# Altium integrated library ISSI SRAM Asynchronous SRAM High Speed Low Power.IntLib: 413 symbols (part 15 of 21)
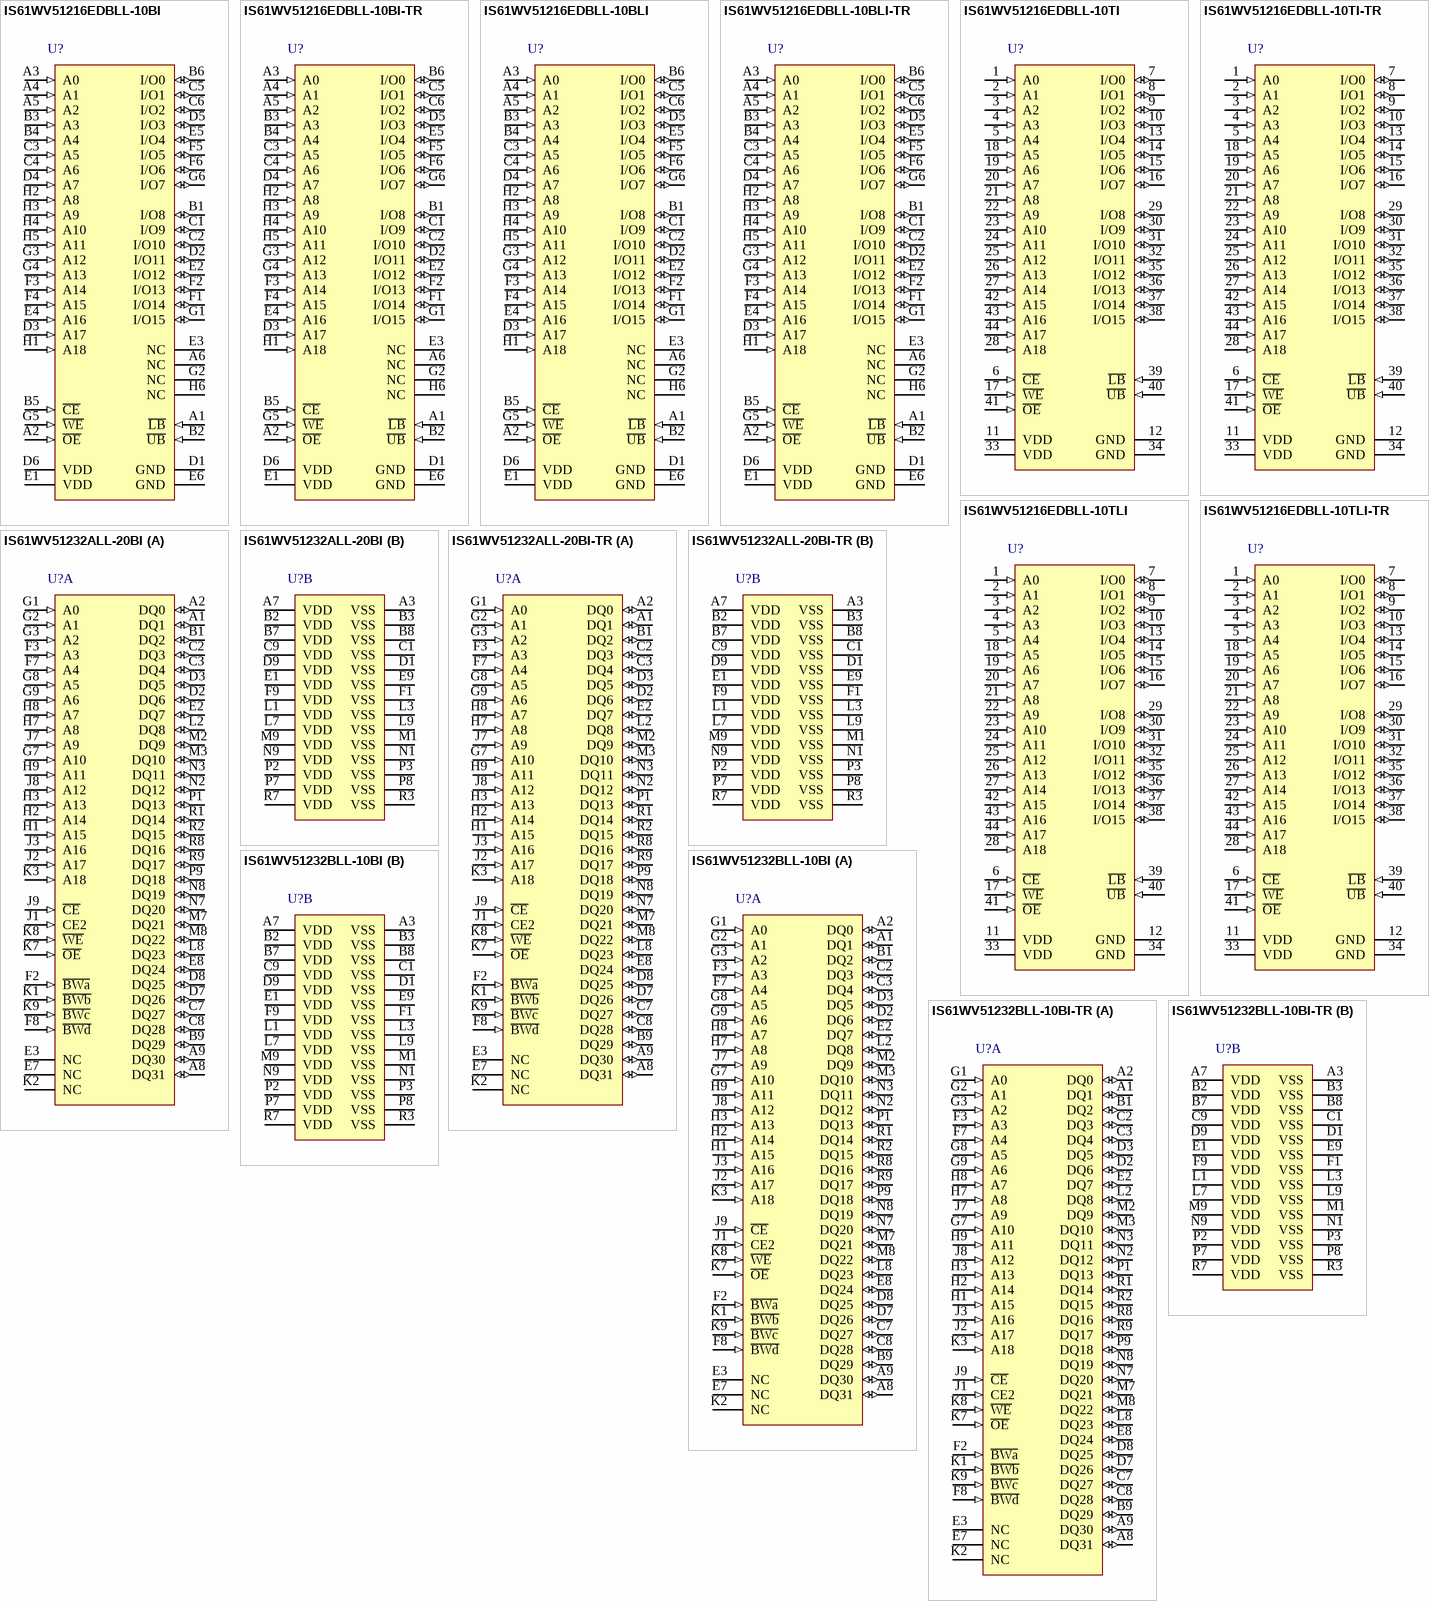
[diagram p42: symbols IS61WV51216EDBLL-10BI to IS61WV51232BLL-10BI-TR]

## IS61WV51216EDBLL-10BI
designator U?
8 M High Speed Asynchronous CMOS SRAM with ECC, 512 K x 16, -40 to 85 degC, 48-Pin BGA (TF-BGA-48); Manufacturer: Integrated Silicon Solution Inc (ISSI); PartNumber: IS61WV51216EDBLL-10BI; Density: 8M; Packing: Tray / Tube; Speed (ns): 10; DatasheetVersion: Rev. C; PackageVersion: Rev. C, 08/2008; PackageReference: TF-BGA-48; PackageDescription: 48-Pin 6 x 8 mm TF-BGA, Pitch 0.75 mm; Organization: 512K x 16; Mounting Technology: Surface Mount; Code_JEDEC: MO-207; ComponentLink1Description: Manufacturer URL; ComponentLink1URL: http://www.issi.com/US/index.shtml; ComponentLink2Description: Datasheet; ComponentLink2URL: http://www.issi.com/WW/pdf/61-64WV51216EDBLL.pdf; ComponentLink3Description: Package Specification; ComponentLink3URL: http://www.issi.com/WW/pdf/61-64WV25616.pdf
footprint ISSI-TF-BGA-48-6000X8000DE (BGA, 48-Balls, Body 8x6mm, Pitch 0.75mm)
pins: A1 ~{LB} (in) "Lower-byte Control (I/O0-I/O7)", A2 ~{OE} (in) "Output Enable Input", A3 A0 (in) "Address Input", A4 A1 (in) "Address Input", A5 A2 (in) "Address Input", A6 NC "No Connection", B1 I/O8 (io) "Data Input/Output", B2 ~{UB} (in) "Upper-byte Control (I/O8-I/O15)", B3 A3 (in) "Address Input", B4 A4 (in) "Address Input", B5 ~{CE} (in) "Chip Enable Input", B6 I/O0 (io) "Data Input/Output", C1 I/O9 (io) "Data Input/Output", C2 I/O10 (io) "Data Input/Output", C3 A5 (in) "Address Input", C4 A6 (in) "Address Input", C5 I/O1 (io) "Data Input/Output", C6 I/O2 (io) "Data Input/Output", D1 GND (power) "Ground", D2 I/O11 (io) "Data Input/Output", D3 A17 (in) "Address Input", D4 A7 (in) "Address Input", D5 I/O3 (io) "Data Input/Output", D6 VDD (power) "Power", E1 VDD (power) "Power", E2 I/O12 (io) "Data Input/Output", E3 NC "No Connection", E4 A16 (in) "Address Input", E5 I/O4 (io) "Data Input/Output", E6 GND (power) "Ground", F1 I/O14 (io) "Data Input/Output", F2 I/O13 (io) "Data Input/Output", F3 A14 (in) "Address Input", F4 A15 (in) "Address Input", F5 I/O5 (io) "Data Input/Output", F6 I/O6 (io) "Data Input/Output", G1 I/O15 (io) "Data Input/Output", G2 NC "No Connection", G3 A12 (in) "Address Input", G4 A13 (in) "Address Input", G5 ~{WE} (in) "Write Enable Input", G6 I/O7 (io) "Data Input/Output", H1 A18 (in) "Address Input", H2 A8 (in) "Address Input", H3 A9 (in) "Address Input", H4 A10 (in) "Address Input", H5 A11 (in) "Address Input", H6 NC "No Connection"

## IS61WV51216EDBLL-10BI-TR
designator U?
8 M High Speed Asynchronous CMOS SRAM with ECC, 512 K x 16, -40 to 85 degC, 48-Pin BGA (TF-BGA-48); Manufacturer: Integrated Silicon Solution Inc (ISSI); PartNumber: IS61WV51216EDBLL-10BI-TR; Density: 8M; Packing: Tape & Reel; Speed (ns): 10; DatasheetVersion: Rev. C; PackageVersion: Rev. C, 08/2008; PackageReference: TF-BGA-48; PackageDescription: 48-Pin 6 x 8 mm TF-BGA, Pitch 0.75 mm; Organization: 512K x 16; Mounting Technology: Surface Mount; Code_JEDEC: MO-207; ComponentLink1Description: Manufacturer URL; ComponentLink1URL: http://www.issi.com/US/index.shtml; ComponentLink2Description: Datasheet; ComponentLink2URL: http://www.issi.com/WW/pdf/61-64WV51216EDBLL.pdf; ComponentLink3Description: Package Specification; ComponentLink3URL: http://www.issi.com/WW/pdf/61-64WV25616.pdf
footprint ISSI-TF-BGA-48-6000X8000DE (BGA, 48-Balls, Body 8x6mm, Pitch 0.75mm)
pins: A1 ~{LB} (in) "Lower-byte Control (I/O0-I/O7)", A2 ~{OE} (in) "Output Enable Input", A3 A0 (in) "Address Input", A4 A1 (in) "Address Input", A5 A2 (in) "Address Input", A6 NC "No Connection", B1 I/O8 (io) "Data Input/Output", B2 ~{UB} (in) "Upper-byte Control (I/O8-I/O15)", B3 A3 (in) "Address Input", B4 A4 (in) "Address Input", B5 ~{CE} (in) "Chip Enable Input", B6 I/O0 (io) "Data Input/Output", C1 I/O9 (io) "Data Input/Output", C2 I/O10 (io) "Data Input/Output", C3 A5 (in) "Address Input", C4 A6 (in) "Address Input", C5 I/O1 (io) "Data Input/Output", C6 I/O2 (io) "Data Input/Output", D1 GND (power) "Ground", D2 I/O11 (io) "Data Input/Output", D3 A17 (in) "Address Input", D4 A7 (in) "Address Input", D5 I/O3 (io) "Data Input/Output", D6 VDD (power) "Power", E1 VDD (power) "Power", E2 I/O12 (io) "Data Input/Output", E3 NC "No Connection", E4 A16 (in) "Address Input", E5 I/O4 (io) "Data Input/Output", E6 GND (power) "Ground", F1 I/O14 (io) "Data Input/Output", F2 I/O13 (io) "Data Input/Output", F3 A14 (in) "Address Input", F4 A15 (in) "Address Input", F5 I/O5 (io) "Data Input/Output", F6 I/O6 (io) "Data Input/Output", G1 I/O15 (io) "Data Input/Output", G2 NC "No Connection", G3 A12 (in) "Address Input", G4 A13 (in) "Address Input", G5 ~{WE} (in) "Write Enable Input", G6 I/O7 (io) "Data Input/Output", H1 A18 (in) "Address Input", H2 A8 (in) "Address Input", H3 A9 (in) "Address Input", H4 A10 (in) "Address Input", H5 A11 (in) "Address Input", H6 NC "No Connection"

## IS61WV51216EDBLL-10BLI
designator U?
8 M High Speed Asynchronous CMOS SRAM with ECC, 512 K x 16, -40 to 85 degC, 48-Pin BGA (TF-BGA-48), Pb-Free; Manufacturer: Integrated Silicon Solution Inc (ISSI); PartNumber: IS61WV51216EDBLL-10BLI; Density: 8M; Packing: Tray / Tube; Speed (ns): 10; DatasheetVersion: Rev. C; PackageVersion: Rev. C, 08/2008; PackageReference: TF-BGA-48; PackageDescription: 48-Pin 6 x 8 mm TF-BGA, Pitch 0.75 mm; Supplier 1: Mouser; Supplier Part Number 1: 870-61WV512DBLL10BLI; Organization: 512K x 16; RoHS: Pb-Free; Mounting Technology: Surface Mount; Code_JEDEC: MO-207; ComponentLink1Description: Manufacturer URL; ComponentLink1URL: http://www.issi.com/US/index.shtml; ComponentLink2Description: Datasheet; ComponentLink2URL: http://www.issi.com/WW/pdf/61-64WV51216EDBLL.pdf; ComponentLink3Description: Package Specification; ComponentLink3URL: http://www.issi.com/WW/pdf/61-64WV25616.pdf
footprint ISSI-TF-BGA-48-6000X8000DE (BGA, 48-Balls, Body 8x6mm, Pitch 0.75mm)
pins: A1 ~{LB} (in) "Lower-byte Control (I/O0-I/O7)", A2 ~{OE} (in) "Output Enable Input", A3 A0 (in) "Address Input", A4 A1 (in) "Address Input", A5 A2 (in) "Address Input", A6 NC "No Connection", B1 I/O8 (io) "Data Input/Output", B2 ~{UB} (in) "Upper-byte Control (I/O8-I/O15)", B3 A3 (in) "Address Input", B4 A4 (in) "Address Input", B5 ~{CE} (in) "Chip Enable Input", B6 I/O0 (io) "Data Input/Output", C1 I/O9 (io) "Data Input/Output", C2 I/O10 (io) "Data Input/Output", C3 A5 (in) "Address Input", C4 A6 (in) "Address Input", C5 I/O1 (io) "Data Input/Output", C6 I/O2 (io) "Data Input/Output", D1 GND (power) "Ground", D2 I/O11 (io) "Data Input/Output", D3 A17 (in) "Address Input", D4 A7 (in) "Address Input", D5 I/O3 (io) "Data Input/Output", D6 VDD (power) "Power", E1 VDD (power) "Power", E2 I/O12 (io) "Data Input/Output", E3 NC "No Connection", E4 A16 (in) "Address Input", E5 I/O4 (io) "Data Input/Output", E6 GND (power) "Ground", F1 I/O14 (io) "Data Input/Output", F2 I/O13 (io) "Data Input/Output", F3 A14 (in) "Address Input", F4 A15 (in) "Address Input", F5 I/O5 (io) "Data Input/Output", F6 I/O6 (io) "Data Input/Output", G1 I/O15 (io) "Data Input/Output", G2 NC "No Connection", G3 A12 (in) "Address Input", G4 A13 (in) "Address Input", G5 ~{WE} (in) "Write Enable Input", G6 I/O7 (io) "Data Input/Output", H1 A18 (in) "Address Input", H2 A8 (in) "Address Input", H3 A9 (in) "Address Input", H4 A10 (in) "Address Input", H5 A11 (in) "Address Input", H6 NC "No Connection"

## IS61WV51216EDBLL-10BLI-TR
designator U?
8 M High Speed Asynchronous CMOS SRAM with ECC, 512 K x 16, -40 to 85 degC, 48-Pin BGA (TF-BGA-48), Pb-Free; Manufacturer: Integrated Silicon Solution Inc (ISSI); PartNumber: IS61WV51216EDBLL-10BLI-TR; Density: 8M; Packing: Tape & Reel; Speed (ns): 10; DatasheetVersion: Rev. C; PackageVersion: Rev. C, 08/2008; PackageReference: TF-BGA-48; PackageDescription: 48-Pin 6 x 8 mm TF-BGA, Pitch 0.75 mm; Supplier 1: Mouser; Supplier Part Number 1: 870-61WV512BLL10BLIT; Organization: 512K x 16; RoHS: Pb-Free; Mounting Technology: Surface Mount; Code_JEDEC: MO-207; ComponentLink1Description: Manufacturer URL; ComponentLink1URL: http://www.issi.com/US/index.shtml; ComponentLink2Description: Datasheet; ComponentLink2URL: http://www.issi.com/WW/pdf/61-64WV51216EDBLL.pdf; ComponentLink3Description: Package Specification; ComponentLink3URL: http://www.issi.com/WW/pdf/61-64WV25616.pdf
footprint ISSI-TF-BGA-48-6000X8000DE (BGA, 48-Balls, Body 8x6mm, Pitch 0.75mm)
pins: A1 ~{LB} (in) "Lower-byte Control (I/O0-I/O7)", A2 ~{OE} (in) "Output Enable Input", A3 A0 (in) "Address Input", A4 A1 (in) "Address Input", A5 A2 (in) "Address Input", A6 NC "No Connection", B1 I/O8 (io) "Data Input/Output", B2 ~{UB} (in) "Upper-byte Control (I/O8-I/O15)", B3 A3 (in) "Address Input", B4 A4 (in) "Address Input", B5 ~{CE} (in) "Chip Enable Input", B6 I/O0 (io) "Data Input/Output", C1 I/O9 (io) "Data Input/Output", C2 I/O10 (io) "Data Input/Output", C3 A5 (in) "Address Input", C4 A6 (in) "Address Input", C5 I/O1 (io) "Data Input/Output", C6 I/O2 (io) "Data Input/Output", D1 GND (power) "Ground", D2 I/O11 (io) "Data Input/Output", D3 A17 (in) "Address Input", D4 A7 (in) "Address Input", D5 I/O3 (io) "Data Input/Output", D6 VDD (power) "Power", E1 VDD (power) "Power", E2 I/O12 (io) "Data Input/Output", E3 NC "No Connection", E4 A16 (in) "Address Input", E5 I/O4 (io) "Data Input/Output", E6 GND (power) "Ground", F1 I/O14 (io) "Data Input/Output", F2 I/O13 (io) "Data Input/Output", F3 A14 (in) "Address Input", F4 A15 (in) "Address Input", F5 I/O5 (io) "Data Input/Output", F6 I/O6 (io) "Data Input/Output", G1 I/O15 (io) "Data Input/Output", G2 NC "No Connection", G3 A12 (in) "Address Input", G4 A13 (in) "Address Input", G5 ~{WE} (in) "Write Enable Input", G6 I/O7 (io) "Data Input/Output", H1 A18 (in) "Address Input", H2 A8 (in) "Address Input", H3 A9 (in) "Address Input", H4 A10 (in) "Address Input", H5 A11 (in) "Address Input", H6 NC "No Connection"

## IS61WV51216EDBLL-10TI
designator U?
8 M High Speed Asynchronous CMOS SRAM with ECC, 512 K x 16, -40 to 85 degC, 44-Pin SOP (TSOP-2-44); Manufacturer: Integrated Silicon Solution Inc (ISSI); PartNumber: IS61WV51216EDBLL-10TI; Density: 8M; Packing: Tray / Tube; Speed (ns): 10; DatasheetVersion: Rev. C; PackageVersion: Rev. F, 06/2008; PackageReference: TSOP-2-44; PackageDescription: 44-Pin 400 mil TSOP-2, Body 18.41 x 10.16 mm, Pitch 0.8 mm; Organization: 512K x 16; Mounting Technology: Surface Mount; ComponentLink1Description: Manufacturer URL; ComponentLink1URL: http://www.issi.com/US/index.shtml; ComponentLink2Description: Datasheet; ComponentLink2URL: http://www.issi.com/WW/pdf/61-64WV51216EDBLL.pdf; ComponentLink3Description: Package Specification; ComponentLink3URL: http://www.issi.com/WW/pdf/61-64WV6416EEBLL.pdf
footprint ISSI-TSOP-2-44_N (SOP, 44-Leads, Body 18.5x10.3mm, Pitch 0.8mm, IPC Medium Density)
pins: 1 A0 (in) "Address Input", 2 A1 (in) "Address Input", 3 A2 (in) "Address Input", 4 A3 (in) "Address Input", 5 A4 (in) "Address Input", 6 ~{CE} (in) "Chip Enable Input", 7 I/O0 (io) "Data Input/Output", 8 I/O1 (io) "Data Input/Output", 9 I/O2 (io) "Data Input/Output", 10 I/O3 (io) "Data Input/Output", 11 VDD (power) "Power", 12 GND (power) "Ground", 13 I/O4 (io) "Data Input/Output", 14 I/O5 (io) "Data Input/Output", 15 I/O6 (io) "Data Input/Output", 16 I/O7 (io) "Data Input/Output", 17 ~{WE} (in) "Write Enable Input", 18 A5 (in) "Address Input", 19 A6 (in) "Address Input", 20 A7 (in) "Address Input", 21 A8 (in) "Address Input", 22 A9 (in) "Address Input", 23 A10 (in) "Address Input", 24 A11 (in) "Address Input", 25 A12 (in) "Address Input", 26 A13 (in) "Address Input", 27 A14 (in) "Address Input", 28 A18 (in) "Address Input", 29 I/O8 (io) "Data Input/Output", 30 I/O9 (io) "Data Input/Output", 31 I/O10 (io) "Data Input/Output", 32 I/O11 (io) "Data Input/Output", 33 VDD (power) "Power", 34 GND (power) "Ground", 35 I/O12 (io) "Data Input/Output", 36 I/O13 (io) "Data Input/Output", 37 I/O14 (io) "Data Input/Output", 38 I/O15 (io) "Data Input/Output", 39 ~{LB} (in) "Lower-byte Control (I/O0-I/O7)", 40 ~{UB} (in) "Upper-byte Control (I/O8-I/O15)", 41 ~{OE} (in) "Output Enable Input", 42 A15 (in) "Address Input", 43 A16 (in) "Address Input", 44 A17 (in) "Address Input"

## IS61WV51216EDBLL-10TI-TR
designator U?
8 M High Speed Asynchronous CMOS SRAM with ECC, 512 K x 16, -40 to 85 degC, 44-Pin SOP (TSOP-2-44); Manufacturer: Integrated Silicon Solution Inc (ISSI); PartNumber: IS61WV51216EDBLL-10TI-TR; Density: 8M; Packing: Tape & Reel; Speed (ns): 10; DatasheetVersion: Rev. C; PackageVersion: Rev. F, 06/2008; PackageReference: TSOP-2-44; PackageDescription: 44-Pin 400 mil TSOP-2, Body 18.41 x 10.16 mm, Pitch 0.8 mm; Organization: 512K x 16; Mounting Technology: Surface Mount; ComponentLink1Description: Manufacturer URL; ComponentLink1URL: http://www.issi.com/US/index.shtml; ComponentLink2Description: Datasheet; ComponentLink2URL: http://www.issi.com/WW/pdf/61-64WV51216EDBLL.pdf; ComponentLink3Description: Package Specification; ComponentLink3URL: http://www.issi.com/WW/pdf/61-64WV6416EEBLL.pdf
footprint ISSI-TSOP-2-44_N (SOP, 44-Leads, Body 18.5x10.3mm, Pitch 0.8mm, IPC Medium Density)
pins: 1 A0 (in) "Address Input", 2 A1 (in) "Address Input", 3 A2 (in) "Address Input", 4 A3 (in) "Address Input", 5 A4 (in) "Address Input", 6 ~{CE} (in) "Chip Enable Input", 7 I/O0 (io) "Data Input/Output", 8 I/O1 (io) "Data Input/Output", 9 I/O2 (io) "Data Input/Output", 10 I/O3 (io) "Data Input/Output", 11 VDD (power) "Power", 12 GND (power) "Ground", 13 I/O4 (io) "Data Input/Output", 14 I/O5 (io) "Data Input/Output", 15 I/O6 (io) "Data Input/Output", 16 I/O7 (io) "Data Input/Output", 17 ~{WE} (in) "Write Enable Input", 18 A5 (in) "Address Input", 19 A6 (in) "Address Input", 20 A7 (in) "Address Input", 21 A8 (in) "Address Input", 22 A9 (in) "Address Input", 23 A10 (in) "Address Input", 24 A11 (in) "Address Input", 25 A12 (in) "Address Input", 26 A13 (in) "Address Input", 27 A14 (in) "Address Input", 28 A18 (in) "Address Input", 29 I/O8 (io) "Data Input/Output", 30 I/O9 (io) "Data Input/Output", 31 I/O10 (io) "Data Input/Output", 32 I/O11 (io) "Data Input/Output", 33 VDD (power) "Power", 34 GND (power) "Ground", 35 I/O12 (io) "Data Input/Output", 36 I/O13 (io) "Data Input/Output", 37 I/O14 (io) "Data Input/Output", 38 I/O15 (io) "Data Input/Output", 39 ~{LB} (in) "Lower-byte Control (I/O0-I/O7)", 40 ~{UB} (in) "Upper-byte Control (I/O8-I/O15)", 41 ~{OE} (in) "Output Enable Input", 42 A15 (in) "Address Input", 43 A16 (in) "Address Input", 44 A17 (in) "Address Input"

## IS61WV51216EDBLL-10TLI
designator U?
8 M High Speed Asynchronous CMOS SRAM with ECC, 512 K x 16, -40 to 85 degC, 44-Pin SOP (TSOP-2-44), Pb-Free; Manufacturer: Integrated Silicon Solution Inc (ISSI); PartNumber: IS61WV51216EDBLL-10TLI; Density: 8M; Packing: Tray / Tube; Speed (ns): 10; DatasheetVersion: Rev. C; PackageVersion: Rev. F, 06/2008; PackageReference: TSOP-2-44; PackageDescription: 44-Pin 400 mil TSOP-2, Body 18.41 x 10.16 mm, Pitch 0.8 mm; Supplier 1: Mouser; Supplier Part Number 1: 870-61WV512DBLL10TLI; Organization: 512K x 16; RoHS: Pb-Free; Mounting Technology: Surface Mount; ComponentLink1Description: Manufacturer URL; ComponentLink1URL: http://www.issi.com/US/index.shtml; ComponentLink2Description: Datasheet; ComponentLink2URL: http://www.issi.com/WW/pdf/61-64WV51216EDBLL.pdf; ComponentLink3Description: Package Specification; ComponentLink3URL: http://www.issi.com/WW/pdf/61-64WV6416EEBLL.pdf
footprint ISSI-TSOP-2-44_N (SOP, 44-Leads, Body 18.5x10.3mm, Pitch 0.8mm, IPC Medium Density)
pins: 1 A0 (in) "Address Input", 2 A1 (in) "Address Input", 3 A2 (in) "Address Input", 4 A3 (in) "Address Input", 5 A4 (in) "Address Input", 6 ~{CE} (in) "Chip Enable Input", 7 I/O0 (io) "Data Input/Output", 8 I/O1 (io) "Data Input/Output", 9 I/O2 (io) "Data Input/Output", 10 I/O3 (io) "Data Input/Output", 11 VDD (power) "Power", 12 GND (power) "Ground", 13 I/O4 (io) "Data Input/Output", 14 I/O5 (io) "Data Input/Output", 15 I/O6 (io) "Data Input/Output", 16 I/O7 (io) "Data Input/Output", 17 ~{WE} (in) "Write Enable Input", 18 A5 (in) "Address Input", 19 A6 (in) "Address Input", 20 A7 (in) "Address Input", 21 A8 (in) "Address Input", 22 A9 (in) "Address Input", 23 A10 (in) "Address Input", 24 A11 (in) "Address Input", 25 A12 (in) "Address Input", 26 A13 (in) "Address Input", 27 A14 (in) "Address Input", 28 A18 (in) "Address Input", 29 I/O8 (io) "Data Input/Output", 30 I/O9 (io) "Data Input/Output", 31 I/O10 (io) "Data Input/Output", 32 I/O11 (io) "Data Input/Output", 33 VDD (power) "Power", 34 GND (power) "Ground", 35 I/O12 (io) "Data Input/Output", 36 I/O13 (io) "Data Input/Output", 37 I/O14 (io) "Data Input/Output", 38 I/O15 (io) "Data Input/Output", 39 ~{LB} (in) "Lower-byte Control (I/O0-I/O7)", 40 ~{UB} (in) "Upper-byte Control (I/O8-I/O15)", 41 ~{OE} (in) "Output Enable Input", 42 A15 (in) "Address Input", 43 A16 (in) "Address Input", 44 A17 (in) "Address Input"

## IS61WV51216EDBLL-10TLI-TR
designator U?
8 M High Speed Asynchronous CMOS SRAM with ECC, 512 K x 16, -40 to 85 degC, 44-Pin SOP (TSOP-2-44), Pb-Free; Manufacturer: Integrated Silicon Solution Inc (ISSI); PartNumber: IS61WV51216EDBLL-10TLI-TR; Density: 8M; Packing: Tape & Reel; Speed (ns): 10; DatasheetVersion: Rev. C; PackageVersion: Rev. F, 06/2008; PackageReference: TSOP-2-44; PackageDescription: 44-Pin 400 mil TSOP-2, Body 18.41 x 10.16 mm, Pitch 0.8 mm; Supplier 1: Mouser; Supplier Part Number 1: 870-61WV512BLL10TLIT; Organization: 512K x 16; RoHS: Pb-Free; Mounting Technology: Surface Mount; ComponentLink1Description: Manufacturer URL; ComponentLink1URL: http://www.issi.com/US/index.shtml; ComponentLink2Description: Datasheet; ComponentLink2URL: http://www.issi.com/WW/pdf/61-64WV51216EDBLL.pdf; ComponentLink3Description: Package Specification; ComponentLink3URL: http://www.issi.com/WW/pdf/61-64WV6416EEBLL.pdf
footprint ISSI-TSOP-2-44_N (SOP, 44-Leads, Body 18.5x10.3mm, Pitch 0.8mm, IPC Medium Density)
pins: 1 A0 (in) "Address Input", 2 A1 (in) "Address Input", 3 A2 (in) "Address Input", 4 A3 (in) "Address Input", 5 A4 (in) "Address Input", 6 ~{CE} (in) "Chip Enable Input", 7 I/O0 (io) "Data Input/Output", 8 I/O1 (io) "Data Input/Output", 9 I/O2 (io) "Data Input/Output", 10 I/O3 (io) "Data Input/Output", 11 VDD (power) "Power", 12 GND (power) "Ground", 13 I/O4 (io) "Data Input/Output", 14 I/O5 (io) "Data Input/Output", 15 I/O6 (io) "Data Input/Output", 16 I/O7 (io) "Data Input/Output", 17 ~{WE} (in) "Write Enable Input", 18 A5 (in) "Address Input", 19 A6 (in) "Address Input", 20 A7 (in) "Address Input", 21 A8 (in) "Address Input", 22 A9 (in) "Address Input", 23 A10 (in) "Address Input", 24 A11 (in) "Address Input", 25 A12 (in) "Address Input", 26 A13 (in) "Address Input", 27 A14 (in) "Address Input", 28 A18 (in) "Address Input", 29 I/O8 (io) "Data Input/Output", 30 I/O9 (io) "Data Input/Output", 31 I/O10 (io) "Data Input/Output", 32 I/O11 (io) "Data Input/Output", 33 VDD (power) "Power", 34 GND (power) "Ground", 35 I/O12 (io) "Data Input/Output", 36 I/O13 (io) "Data Input/Output", 37 I/O14 (io) "Data Input/Output", 38 I/O15 (io) "Data Input/Output", 39 ~{LB} (in) "Lower-byte Control (I/O0-I/O7)", 40 ~{UB} (in) "Upper-byte Control (I/O8-I/O15)", 41 ~{OE} (in) "Output Enable Input", 42 A15 (in) "Address Input", 43 A16 (in) "Address Input", 44 A17 (in) "Address Input"

## IS61WV51232ALL-20BI
designator U?
16 M High Speed Asynchronous CMOS SRAM with 3.3 V Supply, 512 K x 32, -40 to 85 degC, 90-Pin BGA (LF-BGA-90); Manufacturer: Integrated Silicon Solution Inc (ISSI); PartNumber: IS61WV51232ALL-20BI; Density: 16M; Packing: Tray / Tube; Speed (ns): 20; DatasheetVersion: Rev. B; PackageVersion: Rev. B, 08/2008; PackageReference: TF-BGA-90; PackageDescription: 90-Pin 8 x 13 mm TF-BGA, Pitch 0.8 mm; Organization: 512K x 32; Mounting Technology: Surface Mount; Code_JEDEC: MO-207; ComponentLink1Description: Manufacturer URL; ComponentLink1URL: http://www.issi.com/US/index.shtml; ComponentLink2Description: Datasheet; ComponentLink2URL: http://www.issi.com/WW/pdf/61-64WV51232Axx-Bxx.pdf; ComponentLink3Description: Package Specification; ComponentLink3URL: http://www.issi.com/WW/pdf/61-64WV25632.pdf
footprint ISSI-TF-BGA-90-8000X13000DE (BGA, 90-Balls, Body 13x8mm, Pitch 0.8mm)
part A pins: A1 DQ1 (io) "Data I/O", A2 DQ0 (io) "Data I/O", A8 DQ31 (io) "Data I/O", A9 DQ30 (io) "Data I/O", B1 DQ2 (io) "Data I/O", B9 DQ29 (io) "Data I/O", C2 DQ3 (io) "Data I/O", C3 DQ4 (io) "Data I/O", C7 DQ27 (io) "Data I/O", C8 DQ28 (io) "Data I/O", D2 DQ6 (io) "Data I/O", D3 DQ5 (io) "Data I/O", D7 DQ26 (io) "Data I/O", D8 DQ25 (io) "Data I/O", E2 DQ7 (io) "Data I/O", E3 NC "No Connection", E7 NC "No Connection", E8 DQ24 (io) "Data I/O", F2 ~{BWa} (in) "Byte Write Control", F3 A3 (in) "Address Inputs", F7 A4 (in) "Address Inputs", F8 ~{BWd} (in) "Byte Write Control", G1 A0 (in) "Address Inputs", G2 A1 (in) "Address Inputs", G3 A2 (in) "Address Inputs", G7 A10 (in) "Address Inputs", G8 A5 (in) "Address Inputs", G9 A6 (in) "Address Inputs", H1 A15 (in) "Address Inputs", H2 A14 (in) "Address Inputs", H3 A13 (in) "Address Inputs", H7 A8 (in) "Address Inputs", H8 A7 (in) "Address Inputs", H9 A11 (in) "Address Inputs", J1 CE2 (in) "Chip Enable Input", J2 A17 (in) "Address Inputs", J3 A16 (in) "Address Inputs", J7 A9 (in) "Address Inputs", J8 A12 (in) "Address Inputs", J9 ~{CE} (in) "Chip Enable Input", K1 ~{BWb} (in) "Byte Write Control", K2 NC "No Connection", K3 A18 (in) "Address Inputs", K7 ~{OE} (in) "Output Enable Input", K8 ~{WE} (in) "Write Enable Input", K9 ~{BWc} (in) "Byte Write Control", L2 DQ8 (io) "Data I/O", L8 DQ23 (io) "Data I/O", M2 DQ9 (io) "Data I/O", M3 DQ10 (io) "Data I/O", M7 DQ21 (io) "Data I/O", M8 DQ22 (io) "Data I/O", N2 DQ12 (io) "Data I/O", N3 DQ11 (io) "Data I/O", N7 DQ20 (io) "Data I/O", N8 DQ19 (io) "Data I/O", P1 DQ13 (io) "Data I/O", P9 DQ18 (io) "Data I/O", R1 DQ14 (io) "Data I/O", R2 DQ15 (io) "Data I/O", R8 DQ16 (io) "Data I/O", R9 DQ17 (io) "Data I/O"
part B pins: A3 VSS (power) "Ground", A7 VDD (power) "Power", B2 VDD (power) "Power", B3 VSS (power) "Ground", B7 VDD (power) "Power", B8 VSS (power) "Ground", C1 VSS (power) "Ground", C9 VDD (power) "Power", D1 VSS (power) "Ground", D9 VDD (power) "Power", E1 VDD (power) "Power", E9 VSS (power) "Ground", F1 VSS (power) "Ground", F9 VDD (power) "Power", L1 VDD (power) "Power", L3 VSS (power) "Ground", L7 VDD (power) "Power", L9 VSS (power) "Ground", M1 VSS (power) "Ground", M9 VDD (power) "Power", N1 VSS (power) "Ground", N9 VDD (power) "Power", P2 VDD (power) "Power", P3 VSS (power) "Ground", P7 VDD (power) "Power", P8 VSS (power) "Ground", R3 VSS (power) "Ground", R7 VDD (power) "Power"

## IS61WV51232ALL-20BI-TR
designator U?
16 M High Speed Asynchronous CMOS SRAM with 3.3 V Supply, 512 K x 32, -40 to 85 degC, 90-Pin BGA (LF-BGA-90); Manufacturer: Integrated Silicon Solution Inc (ISSI); PartNumber: IS61WV51232ALL-20BI-TR; Density: 16M; Packing: Tape & Reel; Speed (ns): 20; DatasheetVersion: Rev. B; PackageVersion: Rev. B, 08/2008; PackageReference: TF-BGA-90; PackageDescription: 90-Pin 8 x 13 mm TF-BGA, Pitch 0.8 mm; Organization: 512K x 32; Mounting Technology: Surface Mount; Code_JEDEC: MO-207; ComponentLink1Description: Manufacturer URL; ComponentLink1URL: http://www.issi.com/US/index.shtml; ComponentLink2Description: Datasheet; ComponentLink2URL: http://www.issi.com/WW/pdf/61-64WV51232Axx-Bxx.pdf; ComponentLink3Description: Package Specification; ComponentLink3URL: http://www.issi.com/WW/pdf/61-64WV25632.pdf
footprint ISSI-TF-BGA-90-8000X13000DE (BGA, 90-Balls, Body 13x8mm, Pitch 0.8mm)
part A pins: A1 DQ1 (io) "Data I/O", A2 DQ0 (io) "Data I/O", A8 DQ31 (io) "Data I/O", A9 DQ30 (io) "Data I/O", B1 DQ2 (io) "Data I/O", B9 DQ29 (io) "Data I/O", C2 DQ3 (io) "Data I/O", C3 DQ4 (io) "Data I/O", C7 DQ27 (io) "Data I/O", C8 DQ28 (io) "Data I/O", D2 DQ6 (io) "Data I/O", D3 DQ5 (io) "Data I/O", D7 DQ26 (io) "Data I/O", D8 DQ25 (io) "Data I/O", E2 DQ7 (io) "Data I/O", E3 NC "No Connection", E7 NC "No Connection", E8 DQ24 (io) "Data I/O", F2 ~{BWa} (in) "Byte Write Control", F3 A3 (in) "Address Inputs", F7 A4 (in) "Address Inputs", F8 ~{BWd} (in) "Byte Write Control", G1 A0 (in) "Address Inputs", G2 A1 (in) "Address Inputs", G3 A2 (in) "Address Inputs", G7 A10 (in) "Address Inputs", G8 A5 (in) "Address Inputs", G9 A6 (in) "Address Inputs", H1 A15 (in) "Address Inputs", H2 A14 (in) "Address Inputs", H3 A13 (in) "Address Inputs", H7 A8 (in) "Address Inputs", H8 A7 (in) "Address Inputs", H9 A11 (in) "Address Inputs", J1 CE2 (in) "Chip Enable Input", J2 A17 (in) "Address Inputs", J3 A16 (in) "Address Inputs", J7 A9 (in) "Address Inputs", J8 A12 (in) "Address Inputs", J9 ~{CE} (in) "Chip Enable Input", K1 ~{BWb} (in) "Byte Write Control", K2 NC "No Connection", K3 A18 (in) "Address Inputs", K7 ~{OE} (in) "Output Enable Input", K8 ~{WE} (in) "Write Enable Input", K9 ~{BWc} (in) "Byte Write Control", L2 DQ8 (io) "Data I/O", L8 DQ23 (io) "Data I/O", M2 DQ9 (io) "Data I/O", M3 DQ10 (io) "Data I/O", M7 DQ21 (io) "Data I/O", M8 DQ22 (io) "Data I/O", N2 DQ12 (io) "Data I/O", N3 DQ11 (io) "Data I/O", N7 DQ20 (io) "Data I/O", N8 DQ19 (io) "Data I/O", P1 DQ13 (io) "Data I/O", P9 DQ18 (io) "Data I/O", R1 DQ14 (io) "Data I/O", R2 DQ15 (io) "Data I/O", R8 DQ16 (io) "Data I/O", R9 DQ17 (io) "Data I/O"
part B pins: A3 VSS (power) "Ground", A7 VDD (power) "Power", B2 VDD (power) "Power", B3 VSS (power) "Ground", B7 VDD (power) "Power", B8 VSS (power) "Ground", C1 VSS (power) "Ground", C9 VDD (power) "Power", D1 VSS (power) "Ground", D9 VDD (power) "Power", E1 VDD (power) "Power", E9 VSS (power) "Ground", F1 VSS (power) "Ground", F9 VDD (power) "Power", L1 VDD (power) "Power", L3 VSS (power) "Ground", L7 VDD (power) "Power", L9 VSS (power) "Ground", M1 VSS (power) "Ground", M9 VDD (power) "Power", N1 VSS (power) "Ground", N9 VDD (power) "Power", P2 VDD (power) "Power", P3 VSS (power) "Ground", P7 VDD (power) "Power", P8 VSS (power) "Ground", R3 VSS (power) "Ground", R7 VDD (power) "Power"

## IS61WV51232BLL-10BI
designator U?
16 M High Speed Asynchronous CMOS SRAM with 3.3 V Supply, 512 K x 32, -40 to 85 degC, 90-Pin BGA (LF-BGA-90); Manufacturer: Integrated Silicon Solution Inc (ISSI); PartNumber: IS61WV51232BLL-10BI; Density: 16M; Packing: Tray / Tube; Speed (ns): 10; DatasheetVersion: Rev. B; PackageVersion: Rev. B, 08/2008; PackageReference: TF-BGA-90; PackageDescription: 90-Pin 8 x 13 mm TF-BGA, Pitch 0.8 mm; Organization: 512K x 32; Mounting Technology: Surface Mount; Code_JEDEC: MO-207; ComponentLink1Description: Manufacturer URL; ComponentLink1URL: http://www.issi.com/US/index.shtml; ComponentLink2Description: Datasheet; ComponentLink2URL: http://www.issi.com/WW/pdf/61-64WV51232Axx-Bxx.pdf; ComponentLink3Description: Package Specification; ComponentLink3URL: http://www.issi.com/WW/pdf/61-64WV25632.pdf
footprint ISSI-TF-BGA-90-8000X13000DE (BGA, 90-Balls, Body 13x8mm, Pitch 0.8mm)
part A pins: A1 DQ1 (io) "Data I/O", A2 DQ0 (io) "Data I/O", A8 DQ31 (io) "Data I/O", A9 DQ30 (io) "Data I/O", B1 DQ2 (io) "Data I/O", B9 DQ29 (io) "Data I/O", C2 DQ3 (io) "Data I/O", C3 DQ4 (io) "Data I/O", C7 DQ27 (io) "Data I/O", C8 DQ28 (io) "Data I/O", D2 DQ6 (io) "Data I/O", D3 DQ5 (io) "Data I/O", D7 DQ26 (io) "Data I/O", D8 DQ25 (io) "Data I/O", E2 DQ7 (io) "Data I/O", E3 NC "No Connection", E7 NC "No Connection", E8 DQ24 (io) "Data I/O", F2 ~{BWa} (in) "Byte Write Control", F3 A3 (in) "Address Inputs", F7 A4 (in) "Address Inputs", F8 ~{BWd} (in) "Byte Write Control", G1 A0 (in) "Address Inputs", G2 A1 (in) "Address Inputs", G3 A2 (in) "Address Inputs", G7 A10 (in) "Address Inputs", G8 A5 (in) "Address Inputs", G9 A6 (in) "Address Inputs", H1 A15 (in) "Address Inputs", H2 A14 (in) "Address Inputs", H3 A13 (in) "Address Inputs", H7 A8 (in) "Address Inputs", H8 A7 (in) "Address Inputs", H9 A11 (in) "Address Inputs", J1 CE2 (in) "Chip Enable Input", J2 A17 (in) "Address Inputs", J3 A16 (in) "Address Inputs", J7 A9 (in) "Address Inputs", J8 A12 (in) "Address Inputs", J9 ~{CE} (in) "Chip Enable Input", K1 ~{BWb} (in) "Byte Write Control", K2 NC "No Connection", K3 A18 (in) "Address Inputs", K7 ~{OE} (in) "Output Enable Input", K8 ~{WE} (in) "Write Enable Input", K9 ~{BWc} (in) "Byte Write Control", L2 DQ8 (io) "Data I/O", L8 DQ23 (io) "Data I/O", M2 DQ9 (io) "Data I/O", M3 DQ10 (io) "Data I/O", M7 DQ21 (io) "Data I/O", M8 DQ22 (io) "Data I/O", N2 DQ12 (io) "Data I/O", N3 DQ11 (io) "Data I/O", N7 DQ20 (io) "Data I/O", N8 DQ19 (io) "Data I/O", P1 DQ13 (io) "Data I/O", P9 DQ18 (io) "Data I/O", R1 DQ14 (io) "Data I/O", R2 DQ15 (io) "Data I/O", R8 DQ16 (io) "Data I/O", R9 DQ17 (io) "Data I/O"
part B pins: A3 VSS (power) "Ground", A7 VDD (power) "Power", B2 VDD (power) "Power", B3 VSS (power) "Ground", B7 VDD (power) "Power", B8 VSS (power) "Ground", C1 VSS (power) "Ground", C9 VDD (power) "Power", D1 VSS (power) "Ground", D9 VDD (power) "Power", E1 VDD (power) "Power", E9 VSS (power) "Ground", F1 VSS (power) "Ground", F9 VDD (power) "Power", L1 VDD (power) "Power", L3 VSS (power) "Ground", L7 VDD (power) "Power", L9 VSS (power) "Ground", M1 VSS (power) "Ground", M9 VDD (power) "Power", N1 VSS (power) "Ground", N9 VDD (power) "Power", P2 VDD (power) "Power", P3 VSS (power) "Ground", P7 VDD (power) "Power", P8 VSS (power) "Ground", R3 VSS (power) "Ground", R7 VDD (power) "Power"

## IS61WV51232BLL-10BI-TR
designator U?
16 M High Speed Asynchronous CMOS SRAM with 3.3 V Supply, 512 K x 32, -40 to 85 degC, 90-Pin BGA (LF-BGA-90); Manufacturer: Integrated Silicon Solution Inc (ISSI); PartNumber: IS61WV51232BLL-10BI-TR; Density: 16M; Packing: Tape & Reel; Speed (ns): 10; DatasheetVersion: Rev. B; PackageVersion: Rev. B, 08/2008; PackageReference: TF-BGA-90; PackageDescription: 90-Pin 8 x 13 mm TF-BGA, Pitch 0.8 mm; Organization: 512K x 32; Mounting Technology: Surface Mount; Code_JEDEC: MO-207; ComponentLink1Description: Manufacturer URL; ComponentLink1URL: http://www.issi.com/US/index.shtml; ComponentLink2Description: Datasheet; ComponentLink2URL: http://www.issi.com/WW/pdf/61-64WV51232Axx-Bxx.pdf; ComponentLink3Description: Package Specification; ComponentLink3URL: http://www.issi.com/WW/pdf/61-64WV25632.pdf
footprint ISSI-TF-BGA-90-8000X13000DE (BGA, 90-Balls, Body 13x8mm, Pitch 0.8mm)
part A pins: A1 DQ1 (io) "Data I/O", A2 DQ0 (io) "Data I/O", A8 DQ31 (io) "Data I/O", A9 DQ30 (io) "Data I/O", B1 DQ2 (io) "Data I/O", B9 DQ29 (io) "Data I/O", C2 DQ3 (io) "Data I/O", C3 DQ4 (io) "Data I/O", C7 DQ27 (io) "Data I/O", C8 DQ28 (io) "Data I/O", D2 DQ6 (io) "Data I/O", D3 DQ5 (io) "Data I/O", D7 DQ26 (io) "Data I/O", D8 DQ25 (io) "Data I/O", E2 DQ7 (io) "Data I/O", E3 NC "No Connection", E7 NC "No Connection", E8 DQ24 (io) "Data I/O", F2 ~{BWa} (in) "Byte Write Control", F3 A3 (in) "Address Inputs", F7 A4 (in) "Address Inputs", F8 ~{BWd} (in) "Byte Write Control", G1 A0 (in) "Address Inputs", G2 A1 (in) "Address Inputs", G3 A2 (in) "Address Inputs", G7 A10 (in) "Address Inputs", G8 A5 (in) "Address Inputs", G9 A6 (in) "Address Inputs", H1 A15 (in) "Address Inputs", H2 A14 (in) "Address Inputs", H3 A13 (in) "Address Inputs", H7 A8 (in) "Address Inputs", H8 A7 (in) "Address Inputs", H9 A11 (in) "Address Inputs", J1 CE2 (in) "Chip Enable Input", J2 A17 (in) "Address Inputs", J3 A16 (in) "Address Inputs", J7 A9 (in) "Address Inputs", J8 A12 (in) "Address Inputs", J9 ~{CE} (in) "Chip Enable Input", K1 ~{BWb} (in) "Byte Write Control", K2 NC "No Connection", K3 A18 (in) "Address Inputs", K7 ~{OE} (in) "Output Enable Input", K8 ~{WE} (in) "Write Enable Input", K9 ~{BWc} (in) "Byte Write Control", L2 DQ8 (io) "Data I/O", L8 DQ23 (io) "Data I/O", M2 DQ9 (io) "Data I/O", M3 DQ10 (io) "Data I/O", M7 DQ21 (io) "Data I/O", M8 DQ22 (io) "Data I/O", N2 DQ12 (io) "Data I/O", N3 DQ11 (io) "Data I/O", N7 DQ20 (io) "Data I/O", N8 DQ19 (io) "Data I/O", P1 DQ13 (io) "Data I/O", P9 DQ18 (io) "Data I/O", R1 DQ14 (io) "Data I/O", R2 DQ15 (io) "Data I/O", R8 DQ16 (io) "Data I/O", R9 DQ17 (io) "Data I/O"
part B pins: A3 VSS (power) "Ground", A7 VDD (power) "Power", B2 VDD (power) "Power", B3 VSS (power) "Ground", B7 VDD (power) "Power", B8 VSS (power) "Ground", C1 VSS (power) "Ground", C9 VDD (power) "Power", D1 VSS (power) "Ground", D9 VDD (power) "Power", E1 VDD (power) "Power", E9 VSS (power) "Ground", F1 VSS (power) "Ground", F9 VDD (power) "Power", L1 VDD (power) "Power", L3 VSS (power) "Ground", L7 VDD (power) "Power", L9 VSS (power) "Ground", M1 VSS (power) "Ground", M9 VDD (power) "Power", N1 VSS (power) "Ground", N9 VDD (power) "Power", P2 VDD (power) "Power", P3 VSS (power) "Ground", P7 VDD (power) "Power", P8 VSS (power) "Ground", R3 VSS (power) "Ground", R7 VDD (power) "Power"

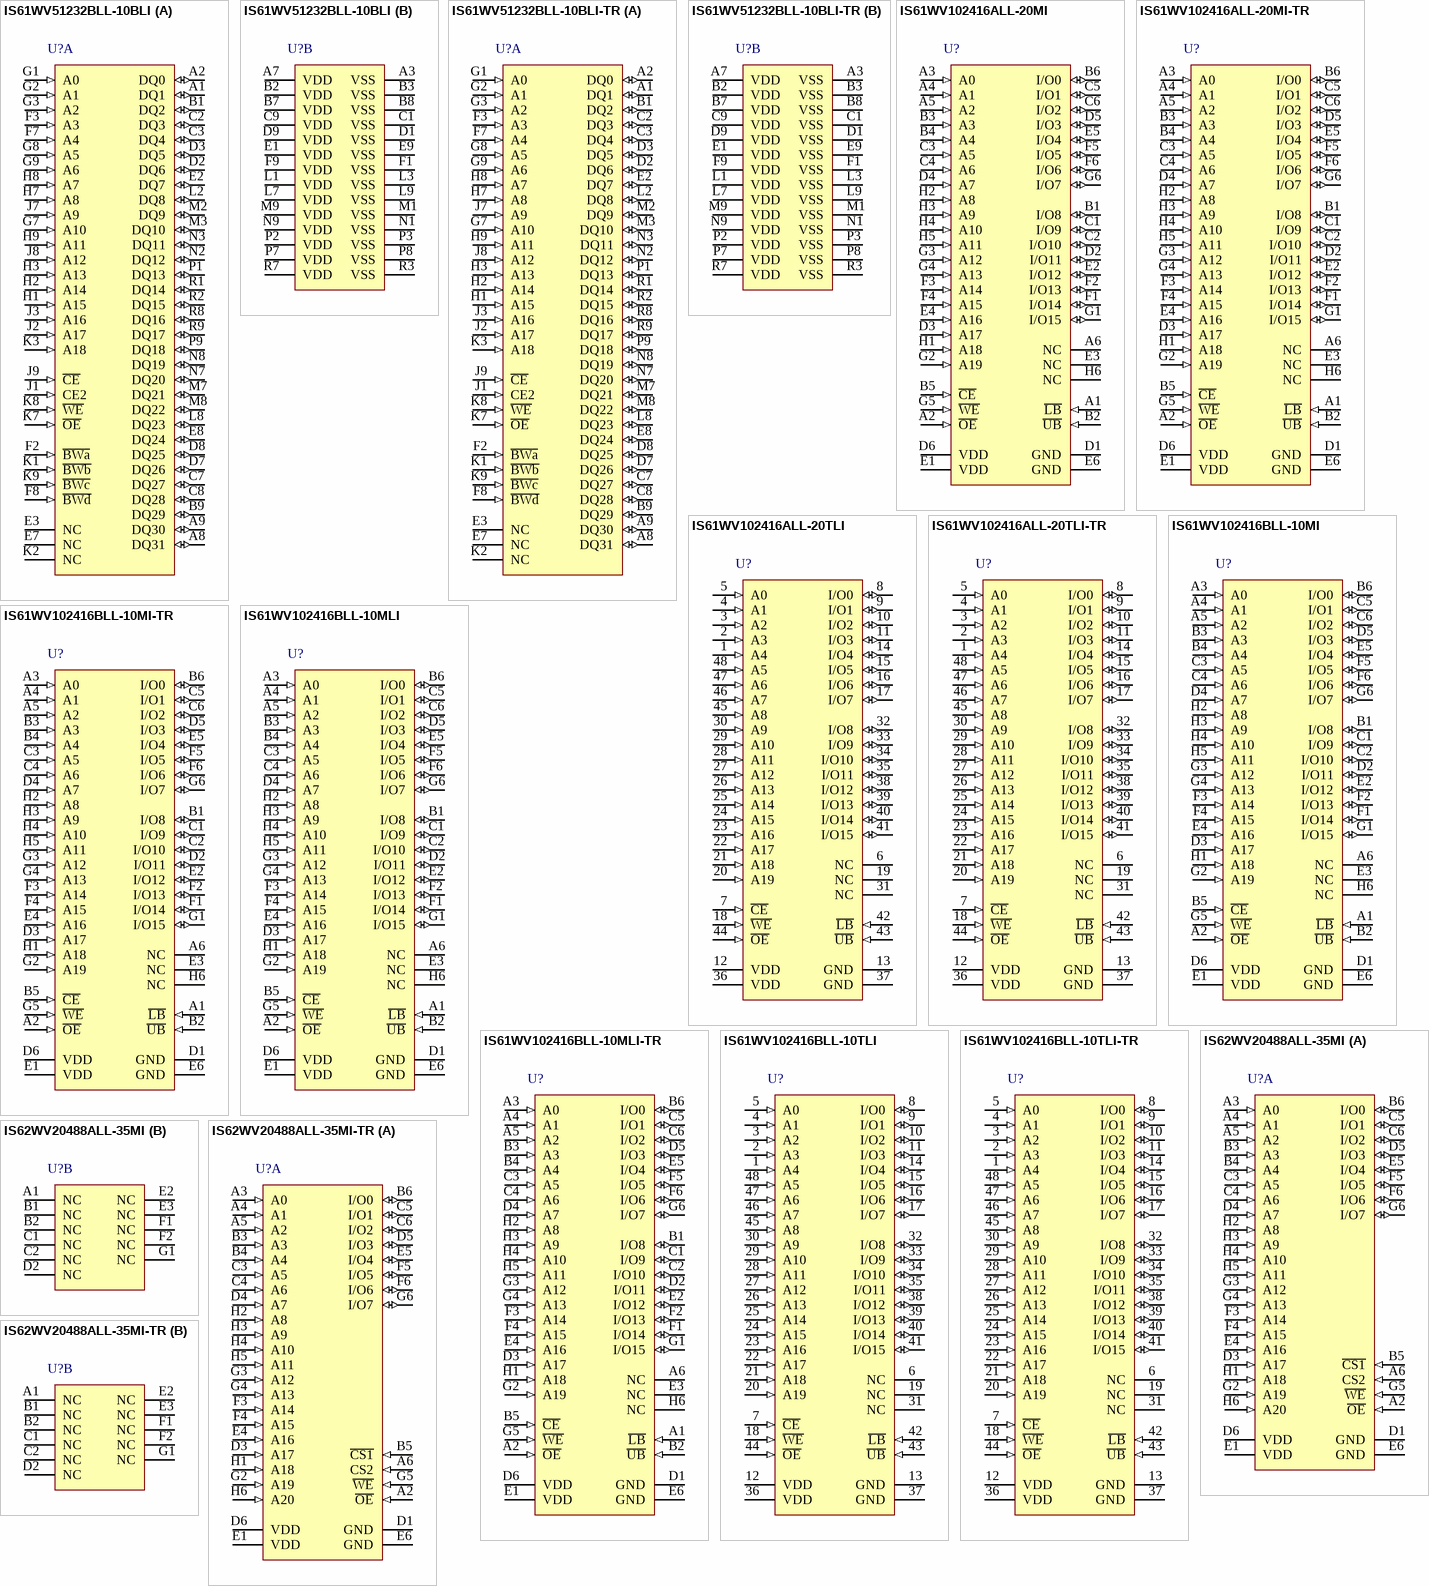
[diagram p21: symbols IS61WV51232BLL-10BLI to IS62WV20488ALL-35MI-TR]

## IS61WV51232BLL-10BLI
designator U?
16 M High Speed Asynchronous CMOS SRAM with 3.3 V Supply, 512 K x 32, -40 to 85 degC, 90-Pin BGA (LF-BGA-90), Pb-Free; Manufacturer: Integrated Silicon Solution Inc (ISSI); PartNumber: IS61WV51232BLL-10BLI; Density: 16M; Packing: Tray / Tube; Speed (ns): 10; DatasheetVersion: Rev. B; PackageVersion: Rev. B, 08/2008; PackageReference: TF-BGA-90; PackageDescription: 90-Pin 8 x 13 mm TF-BGA, Pitch 0.8 mm; Supplier 1: Digi-Key; Supplier Part Number 1: IS61WV51232BLL-10BLI-ND; Supplier 2: Newark; Supplier Part Number 2: 58M0541; Supplier 3: Mouser; Supplier Part Number 3: 870-61WV51232B10BLI; Organization: 512K x 32; RoHS: Pb-Free; Mounting Technology: Surface Mount; Code_JEDEC: MO-207; ComponentLink1Description: Manufacturer URL; ComponentLink1URL: http://www.issi.com/US/index.shtml; ComponentLink2Description: Datasheet; ComponentLink2URL: http://www.issi.com/WW/pdf/61-64WV51232Axx-Bxx.pdf; ComponentLink3Description: Package Specification; ComponentLink3URL: http://www.issi.com/WW/pdf/61-64WV25632.pdf
footprint ISSI-TF-BGA-90-8000X13000DE (BGA, 90-Balls, Body 13x8mm, Pitch 0.8mm)
part A pins: A1 DQ1 (io) "Data I/O", A2 DQ0 (io) "Data I/O", A8 DQ31 (io) "Data I/O", A9 DQ30 (io) "Data I/O", B1 DQ2 (io) "Data I/O", B9 DQ29 (io) "Data I/O", C2 DQ3 (io) "Data I/O", C3 DQ4 (io) "Data I/O", C7 DQ27 (io) "Data I/O", C8 DQ28 (io) "Data I/O", D2 DQ6 (io) "Data I/O", D3 DQ5 (io) "Data I/O", D7 DQ26 (io) "Data I/O", D8 DQ25 (io) "Data I/O", E2 DQ7 (io) "Data I/O", E3 NC "No Connection", E7 NC "No Connection", E8 DQ24 (io) "Data I/O", F2 ~{BWa} (in) "Byte Write Control", F3 A3 (in) "Address Inputs", F7 A4 (in) "Address Inputs", F8 ~{BWd} (in) "Byte Write Control", G1 A0 (in) "Address Inputs", G2 A1 (in) "Address Inputs", G3 A2 (in) "Address Inputs", G7 A10 (in) "Address Inputs", G8 A5 (in) "Address Inputs", G9 A6 (in) "Address Inputs", H1 A15 (in) "Address Inputs", H2 A14 (in) "Address Inputs", H3 A13 (in) "Address Inputs", H7 A8 (in) "Address Inputs", H8 A7 (in) "Address Inputs", H9 A11 (in) "Address Inputs", J1 CE2 (in) "Chip Enable Input", J2 A17 (in) "Address Inputs", J3 A16 (in) "Address Inputs", J7 A9 (in) "Address Inputs", J8 A12 (in) "Address Inputs", J9 ~{CE} (in) "Chip Enable Input", K1 ~{BWb} (in) "Byte Write Control", K2 NC "No Connection", K3 A18 (in) "Address Inputs", K7 ~{OE} (in) "Output Enable Input", K8 ~{WE} (in) "Write Enable Input", K9 ~{BWc} (in) "Byte Write Control", L2 DQ8 (io) "Data I/O", L8 DQ23 (io) "Data I/O", M2 DQ9 (io) "Data I/O", M3 DQ10 (io) "Data I/O", M7 DQ21 (io) "Data I/O", M8 DQ22 (io) "Data I/O", N2 DQ12 (io) "Data I/O", N3 DQ11 (io) "Data I/O", N7 DQ20 (io) "Data I/O", N8 DQ19 (io) "Data I/O", P1 DQ13 (io) "Data I/O", P9 DQ18 (io) "Data I/O", R1 DQ14 (io) "Data I/O", R2 DQ15 (io) "Data I/O", R8 DQ16 (io) "Data I/O", R9 DQ17 (io) "Data I/O"
part B pins: A3 VSS (power) "Ground", A7 VDD (power) "Power", B2 VDD (power) "Power", B3 VSS (power) "Ground", B7 VDD (power) "Power", B8 VSS (power) "Ground", C1 VSS (power) "Ground", C9 VDD (power) "Power", D1 VSS (power) "Ground", D9 VDD (power) "Power", E1 VDD (power) "Power", E9 VSS (power) "Ground", F1 VSS (power) "Ground", F9 VDD (power) "Power", L1 VDD (power) "Power", L3 VSS (power) "Ground", L7 VDD (power) "Power", L9 VSS (power) "Ground", M1 VSS (power) "Ground", M9 VDD (power) "Power", N1 VSS (power) "Ground", N9 VDD (power) "Power", P2 VDD (power) "Power", P3 VSS (power) "Ground", P7 VDD (power) "Power", P8 VSS (power) "Ground", R3 VSS (power) "Ground", R7 VDD (power) "Power"

## IS61WV51232BLL-10BLI-TR
designator U?
16 M High Speed Asynchronous CMOS SRAM with 3.3 V Supply, 512 K x 32, -40 to 85 degC, 90-Pin BGA (LF-BGA-90), Pb-Free; Manufacturer: Integrated Silicon Solution Inc (ISSI); PartNumber: IS61WV51232BLL-10BLI-TR; Density: 16M; Packing: Tape & Reel; Speed (ns): 10; DatasheetVersion: Rev. B; PackageVersion: Rev. B, 08/2008; PackageReference: LF-BGA-90; PackageDescription: 90-Pin 8 x 13 mm TF-BGA, Pitch 0.8 mm; Supplier 1: Digi-Key; Supplier Part Number 1: IS61WV51232BLL-10BLI-TR-ND; Supplier 2: Mouser; Supplier Part Number 2: 870-61WV51232B10BLIT; Organization: 512K x 32; RoHS: Pb-Free; Mounting Technology: Surface Mount; Code_JEDEC: MO-207; ComponentLink1Description: Manufacturer URL; ComponentLink1URL: http://www.issi.com/US/index.shtml; ComponentLink2Description: Datasheet; ComponentLink2URL: http://www.issi.com/WW/pdf/61-64WV51232Axx-Bxx.pdf; ComponentLink3Description: Package Specification; ComponentLink3URL: http://www.issi.com/WW/pdf/61-64WV51232Axx-Bxx.pdf
footprint ISSI-LF-BGA-90-8000X13000DE (BGA, 90-Balls, Body 13x8mm, Pitch 0.8mm)
part A pins: A1 DQ1 (io) "Data I/O", A2 DQ0 (io) "Data I/O", A8 DQ31 (io) "Data I/O", A9 DQ30 (io) "Data I/O", B1 DQ2 (io) "Data I/O", B9 DQ29 (io) "Data I/O", C2 DQ3 (io) "Data I/O", C3 DQ4 (io) "Data I/O", C7 DQ27 (io) "Data I/O", C8 DQ28 (io) "Data I/O", D2 DQ6 (io) "Data I/O", D3 DQ5 (io) "Data I/O", D7 DQ26 (io) "Data I/O", D8 DQ25 (io) "Data I/O", E2 DQ7 (io) "Data I/O", E3 NC "No Connection", E7 NC "No Connection", E8 DQ24 (io) "Data I/O", F2 ~{BWa} (in) "Byte Write Control", F3 A3 (in) "Address Inputs", F7 A4 (in) "Address Inputs", F8 ~{BWd} (in) "Byte Write Control", G1 A0 (in) "Address Inputs", G2 A1 (in) "Address Inputs", G3 A2 (in) "Address Inputs", G7 A10 (in) "Address Inputs", G8 A5 (in) "Address Inputs", G9 A6 (in) "Address Inputs", H1 A15 (in) "Address Inputs", H2 A14 (in) "Address Inputs", H3 A13 (in) "Address Inputs", H7 A8 (in) "Address Inputs", H8 A7 (in) "Address Inputs", H9 A11 (in) "Address Inputs", J1 CE2 (in) "Chip Enable Input", J2 A17 (in) "Address Inputs", J3 A16 (in) "Address Inputs", J7 A9 (in) "Address Inputs", J8 A12 (in) "Address Inputs", J9 ~{CE} (in) "Chip Enable Input", K1 ~{BWb} (in) "Byte Write Control", K2 NC "No Connection", K3 A18 (in) "Address Inputs", K7 ~{OE} (in) "Output Enable Input", K8 ~{WE} (in) "Write Enable Input", K9 ~{BWc} (in) "Byte Write Control", L2 DQ8 (io) "Data I/O", L8 DQ23 (io) "Data I/O", M2 DQ9 (io) "Data I/O", M3 DQ10 (io) "Data I/O", M7 DQ21 (io) "Data I/O", M8 DQ22 (io) "Data I/O", N2 DQ12 (io) "Data I/O", N3 DQ11 (io) "Data I/O", N7 DQ20 (io) "Data I/O", N8 DQ19 (io) "Data I/O", P1 DQ13 (io) "Data I/O", P9 DQ18 (io) "Data I/O", R1 DQ14 (io) "Data I/O", R2 DQ15 (io) "Data I/O", R8 DQ16 (io) "Data I/O", R9 DQ17 (io) "Data I/O"
part B pins: A3 VSS (power) "Ground", A7 VDD (power) "Power", B2 VDD (power) "Power", B3 VSS (power) "Ground", B7 VDD (power) "Power", B8 VSS (power) "Ground", C1 VSS (power) "Ground", C9 VDD (power) "Power", D1 VSS (power) "Ground", D9 VDD (power) "Power", E1 VDD (power) "Power", E9 VSS (power) "Ground", F1 VSS (power) "Ground", F9 VDD (power) "Power", L1 VDD (power) "Power", L3 VSS (power) "Ground", L7 VDD (power) "Power", L9 VSS (power) "Ground", M1 VSS (power) "Ground", M9 VDD (power) "Power", N1 VSS (power) "Ground", N9 VDD (power) "Power", P2 VDD (power) "Power", P3 VSS (power) "Ground", P7 VDD (power) "Power", P8 VSS (power) "Ground", R3 VSS (power) "Ground", R7 VDD (power) "Power"

## IS61WV102416ALL-20MI
designator U?
16 M High Speed Asynchronous CMOS SRAM with 3.3 V Supply, 1 M x 16, -40 to 85 degC, 48-Pin BGA (TF-BGA-48); Manufacturer: Integrated Silicon Solution Inc (ISSI); PartNumber: IS61WV102416ALL-20MI; Density: 16M; Organization: 1M x 16; Packing: Tray / Tube; Speed (ns): 20; DatasheetVersion: Rev. F; PackageVersion: Rev. B, 08/2008; PackageReference: TF-BGA-48; PackageDescription: 48-Pin 9 x 11 mm TF-BGA, Pitch 0.75 mm; Supplier 1: Mouser; Supplier Part Number 1: 870-61WV102416ALL2MI; Mounting Technology: Surface Mount; Code_JEDEC: MO-207; ComponentLink1Description: Manufacturer URL; ComponentLink1URL: http://www.issi.com/US/index.shtml; ComponentLink2Description: Datasheet; ComponentLink2URL: http://www.issi.com/WW/pdf/61WV102416ALL.pdf; ComponentLink3Description: Package Specification; ComponentLink3URL: http://www.issi.com/WW/pdf/61-64WV51216.pdf
footprint ISSI-TF-BGA-48-9000x11000DE (BGA, 48-Balls, Body 11x9mm, Pitch 0.75mm)
pins: A1 ~{LB} (in) "Lower-byte Control (I/O0-I/O7)", A2 ~{OE} (in) "Output Enable Input", A3 A0 (in) "Address Input", A4 A1 (in) "Address Input", A5 A2 (in) "Address Input", A6 NC "No Connection", B1 I/O8 (io) "Data Inputs/Output", B2 ~{UB} (in) "Upper-byte Control (I/O8-I/O15)", B3 A3 (in) "Address Input", B4 A4 (in) "Address Input", B5 ~{CE} (in) "Chip Enable Input", B6 I/O0 (io) "Data Inputs/Output", C1 I/O9 (io) "Data Inputs/Output", C2 I/O10 (io) "Data Inputs/Output", C3 A5 (in) "Address Input", C4 A6 (in) "Address Input", C5 I/O1 (io) "Data Inputs/Output", C6 I/O2 (io) "Data Inputs/Output", D1 GND (power) "Ground", D2 I/O11 (io) "Data Inputs/Output", D3 A17 (in) "Address Input", D4 A7 (in) "Address Input", D5 I/O3 (io) "Data Inputs/Output", D6 VDD (power) "Power", E1 VDD (power) "Power", E2 I/O12 (io) "Data Inputs/Output", E3 NC "No Connection", E4 A16 (in) "Address Input", E5 I/O4 (io) "Data Inputs/Output", E6 GND (power) "Ground", F1 I/O14 (io) "Data Inputs/Output", F2 I/O13 (io) "Data Inputs/Output", F3 A14 (in) "Address Input", F4 A15 (in) "Address Input", F5 I/O5 (io) "Data Inputs/Output", F6 I/O6 (io) "Data Inputs/Output", G1 I/O15 (io) "Data Inputs/Output", G2 A19 (in) "Address Input", G3 A12 (in) "Address Input", G4 A13 (in) "Address Input", G5 ~{WE} (in) "Write Enable Input", G6 I/O7 (io) "Data Inputs/Output", H1 A18 (in) "Address Input", H2 A8 (in) "Address Input", H3 A9 (in) "Address Input", H4 A10 (in) "Address Input", H5 A11 (in) "Address Input", H6 NC "No Connection"

## IS61WV102416ALL-20MI-TR
designator U?
16 M High Speed Asynchronous CMOS SRAM with 3.3 V Supply, 1 M x 16, -40 to 85 degC, 48-Pin BGA (TF-BGA-48); Manufacturer: Integrated Silicon Solution Inc (ISSI); PartNumber: IS61WV102416ALL-20MI-TR; Density: 16M; Organization: 1M x 16; Packing: Tape & Reel; Speed (ns): 20; DatasheetVersion: Rev. F; PackageVersion: Rev. B, 08/2008; PackageReference: TF-BGA-48; PackageDescription: 48-Pin 9 x 11 mm TF-BGA, Pitch 0.75 mm; Supplier 1: Newark; Supplier Part Number 1: 15N5179; Supplier 2: Mouser; Supplier Part Number 2: 87061WV102416ALL2MIT; Mounting Technology: Surface Mount; Code_JEDEC: MO-207; ComponentLink1Description: Manufacturer URL; ComponentLink1URL: http://www.issi.com/US/index.shtml; ComponentLink2Description: Datasheet; ComponentLink2URL: http://www.issi.com/WW/pdf/61WV102416ALL.pdf; ComponentLink3Description: Package Specification; ComponentLink3URL: http://www.issi.com/WW/pdf/61-64WV51216.pdf
footprint ISSI-TF-BGA-48-9000x11000DE (BGA, 48-Balls, Body 11x9mm, Pitch 0.75mm)
pins: A1 ~{LB} (in) "Lower-byte Control (I/O0-I/O7)", A2 ~{OE} (in) "Output Enable Input", A3 A0 (in) "Address Input", A4 A1 (in) "Address Input", A5 A2 (in) "Address Input", A6 NC "No Connection", B1 I/O8 (io) "Data Inputs/Output", B2 ~{UB} (in) "Upper-byte Control (I/O8-I/O15)", B3 A3 (in) "Address Input", B4 A4 (in) "Address Input", B5 ~{CE} (in) "Chip Enable Input", B6 I/O0 (io) "Data Inputs/Output", C1 I/O9 (io) "Data Inputs/Output", C2 I/O10 (io) "Data Inputs/Output", C3 A5 (in) "Address Input", C4 A6 (in) "Address Input", C5 I/O1 (io) "Data Inputs/Output", C6 I/O2 (io) "Data Inputs/Output", D1 GND (power) "Ground", D2 I/O11 (io) "Data Inputs/Output", D3 A17 (in) "Address Input", D4 A7 (in) "Address Input", D5 I/O3 (io) "Data Inputs/Output", D6 VDD (power) "Power", E1 VDD (power) "Power", E2 I/O12 (io) "Data Inputs/Output", E3 NC "No Connection", E4 A16 (in) "Address Input", E5 I/O4 (io) "Data Inputs/Output", E6 GND (power) "Ground", F1 I/O14 (io) "Data Inputs/Output", F2 I/O13 (io) "Data Inputs/Output", F3 A14 (in) "Address Input", F4 A15 (in) "Address Input", F5 I/O5 (io) "Data Inputs/Output", F6 I/O6 (io) "Data Inputs/Output", G1 I/O15 (io) "Data Inputs/Output", G2 A19 (in) "Address Input", G3 A12 (in) "Address Input", G4 A13 (in) "Address Input", G5 ~{WE} (in) "Write Enable Input", G6 I/O7 (io) "Data Inputs/Output", H1 A18 (in) "Address Input", H2 A8 (in) "Address Input", H3 A9 (in) "Address Input", H4 A10 (in) "Address Input", H5 A11 (in) "Address Input", H6 NC "No Connection"

## IS61WV102416ALL-20TLI
designator U?
16 M High Speed Asynchronous CMOS SRAM with 3.3 V Supply, 1 M x 16, -40 to 85 degC, 48-Pin SOP (TSOP-1-48), Pb-Free; Manufacturer: Integrated Silicon Solution Inc (ISSI); PartNumber: IS61WV102416ALL-20TLI; Density: 16M; Organization: 1M x 16; Packing: Tray / Tube; Speed (ns): 20; DatasheetVersion: Rev. F; PackageVersion: Rev. B, 07/2006; PackageReference: TSOP-1-48; PackageDescription: 48-Pin 12 x 20 mm TSOP-1, Pitch 0.5 mm; Supplier 1: Newark; Supplier Part Number 1: 24T8345; Supplier 2: Mouser; Supplier Part Number 2: 870-61WV102416A20TLI; RoHS: Pb-Free; Mounting Technology: Surface Mount; ComponentLink1Description: Manufacturer URL; ComponentLink1URL: http://www.issi.com/US/index.shtml; ComponentLink2Description: Datasheet; ComponentLink2URL: http://www.issi.com/WW/pdf/61WV102416ALL.pdf; ComponentLink3Description: Package Specification; ComponentLink3URL: http://www.issi.com/WW/pdf/61WV102416ALL.pdf
footprint ISSI-TSOP-1-48-12000X20000DE_N (SOP, 48-Leads, Body 18.6x12.2mm, Pitch 0.5mm, IPC Medium Density)
pins: 1 A4 (in) "Address Input", 2 A3 (in) "Address Input", 3 A2 (in) "Address Input", 4 A1 (in) "Address Input", 5 A0 (in) "Address Input", 6 NC "No Connection", 7 ~{CE} (in) "Chip Enable Input", 8 I/O0 (io) "Data Input/Output", 9 I/O1 (io) "Data Input/Output", 10 I/O2 (io) "Data Input/Output", 11 I/O3 (io) "Data Input/Output", 12 VDD (power) "Power", 13 GND (power) "Ground", 14 I/O4 (io) "Data Input/Output", 15 I/O5 (io) "Data Input/Output", 16 I/O6 (io) "Data Input/Output", 17 I/O7 (io) "Data Input/Output", 18 ~{WE} (in) "Write Enable Input", 19 NC "No Connection", 20 A19 (in) "Address Input", 21 A18 (in) "Address Input", 22 A17 (in) "Address Input", 23 A16 (in) "Address Input", 24 A15 (in) "Address Input", 25 A14 (in) "Address Input", 26 A13 (in) "Address Input", 27 A12 (in) "Address Input", 28 A11 (in) "Address Input", 29 A10 (in) "Address Input", 30 A9 (in) "Address Input", 31 NC "No Connection", 32 I/O8 (io) "Data Input/Output", 33 I/O9 (io) "Data Input/Output", 34 I/O10 (io) "Data Input/Output", 35 I/O11 (io) "Data Input/Output", 36 VDD (power) "Power", 37 GND (power) "Ground", 38 I/O12 (io) "Data Input/Output", 39 I/O13 (io) "Data Input/Output", 40 I/O14 (io) "Data Input/Output", 41 I/O15 (io) "Data Input/Output", 42 ~{LB} (in) "Lower-byte Control (I/O0-I/O7)", 43 ~{UB} (in) "Upper-byte Control (I/O8-I/O15)", 44 ~{OE} (in) "Output Enable Input", 45 A8 (in) "Address Input", 46 A7 (in) "Address Input", 47 A6 (in) "Address Input", 48 A5 (in) "Address Input"

## IS61WV102416ALL-20TLI-TR
designator U?
16 M High Speed Asynchronous CMOS SRAM with 3.3 V Supply, 1 M x 16, -40 to 85 degC, 48-Pin SOP (TSOP-1-48), Pb-Free; Manufacturer: Integrated Silicon Solution Inc (ISSI); PartNumber: IS61WV102416ALL-20TLI-TR; Density: 16M; Organization: 1M x 16; Packing: Tape & Reel; Speed (ns): 20; DatasheetVersion: Rev. F; PackageVersion: Rev. B, 07/2006; PackageReference: TSOP-1-48; PackageDescription: 48-Pin 12 x 20 mm TSOP-1, Pitch 0.5 mm; Supplier 1: Newark; Supplier Part Number 1: 24T8346; Supplier 2: Mouser; Supplier Part Number 2: 870-61WV102416A2TLIT; RoHS: Pb-Free; Mounting Technology: Surface Mount; ComponentLink1Description: Manufacturer URL; ComponentLink1URL: http://www.issi.com/US/index.shtml; ComponentLink2Description: Datasheet; ComponentLink2URL: http://www.issi.com/WW/pdf/61WV102416ALL.pdf; ComponentLink3Description: Package Specification; ComponentLink3URL: http://www.issi.com/WW/pdf/61WV102416ALL.pdf
footprint ISSI-TSOP-1-48-12000X20000DE_N (SOP, 48-Leads, Body 18.6x12.2mm, Pitch 0.5mm, IPC Medium Density)
pins: 1 A4 (in) "Address Input", 2 A3 (in) "Address Input", 3 A2 (in) "Address Input", 4 A1 (in) "Address Input", 5 A0 (in) "Address Input", 6 NC "No Connection", 7 ~{CE} (in) "Chip Enable Input", 8 I/O0 (io) "Data Input/Output", 9 I/O1 (io) "Data Input/Output", 10 I/O2 (io) "Data Input/Output", 11 I/O3 (io) "Data Input/Output", 12 VDD (power) "Power", 13 GND (power) "Ground", 14 I/O4 (io) "Data Input/Output", 15 I/O5 (io) "Data Input/Output", 16 I/O6 (io) "Data Input/Output", 17 I/O7 (io) "Data Input/Output", 18 ~{WE} (in) "Write Enable Input", 19 NC "No Connection", 20 A19 (in) "Address Input", 21 A18 (in) "Address Input", 22 A17 (in) "Address Input", 23 A16 (in) "Address Input", 24 A15 (in) "Address Input", 25 A14 (in) "Address Input", 26 A13 (in) "Address Input", 27 A12 (in) "Address Input", 28 A11 (in) "Address Input", 29 A10 (in) "Address Input", 30 A9 (in) "Address Input", 31 NC "No Connection", 32 I/O8 (io) "Data Input/Output", 33 I/O9 (io) "Data Input/Output", 34 I/O10 (io) "Data Input/Output", 35 I/O11 (io) "Data Input/Output", 36 VDD (power) "Power", 37 GND (power) "Ground", 38 I/O12 (io) "Data Input/Output", 39 I/O13 (io) "Data Input/Output", 40 I/O14 (io) "Data Input/Output", 41 I/O15 (io) "Data Input/Output", 42 ~{LB} (in) "Lower-byte Control (I/O0-I/O7)", 43 ~{UB} (in) "Upper-byte Control (I/O8-I/O15)", 44 ~{OE} (in) "Output Enable Input", 45 A8 (in) "Address Input", 46 A7 (in) "Address Input", 47 A6 (in) "Address Input", 48 A5 (in) "Address Input"